# EAGLE library part 4051 (library InfoAmazonia)
8-channel ANALOG MULTIPLEXER
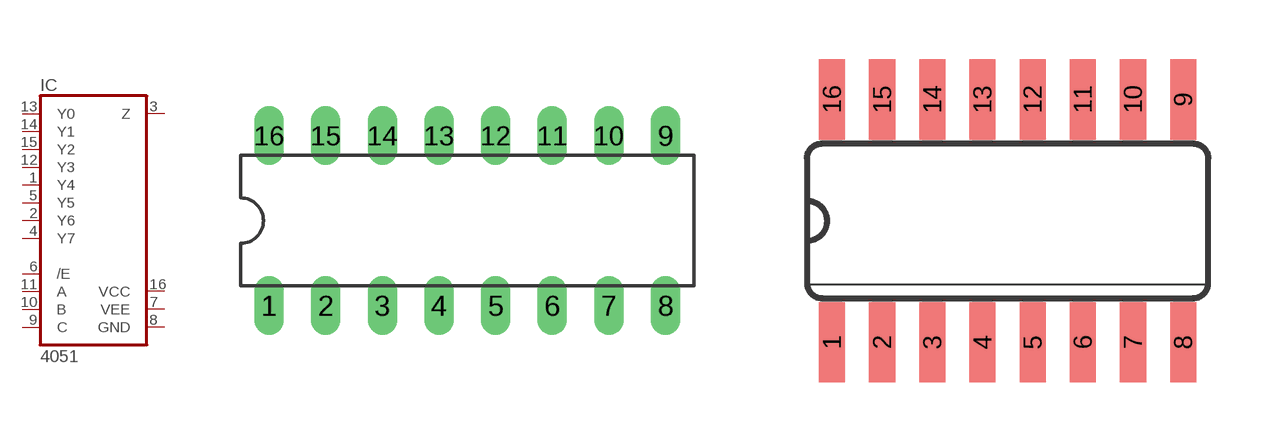
[diagram p17: symbol with the pads of DIL16; footprints DIL16, SO16]

Designator prefix IC

## 4051N  [DIL16]
1  Y4
2  Y6
3  Z
4  Y7
5  Y5
6  /E  in
7  VEE
8  GND
9  C  in
10  B  in
11  A  in
12  Y3
13  Y0
14  Y1
15  Y2
16  VCC

## 4051D  [SO16]
Pads as for DIL16

## 4051PW  [TSSOP16]
Pads as for DIL16

## Footprint DIL16 (pad centres in mm)
Dual In Line Package
drill 0.813 long: 1 -8.89,-3.81; 2 -6.35,-3.81; 3 -3.81,-3.81; 4 -1.27,-3.81; 5 1.27,-3.81; 6 3.81,-3.81; 7 6.35,-3.81; 8 8.89,-3.81; 9 8.89,3.81; 10 6.35,3.81; 11 3.81,3.81; 12 1.27,3.81; 13 -1.27,3.81; 14 -3.81,3.81; 15 -6.35,3.81; 16 -8.89,3.81

## Footprint SO16 (pad centres in mm)
Small Outline package 150 mil
smd 0.66 x 2.032: 1 -4.445,-3.073; 2 -3.175,-3.073; 3 -1.905,-3.073; 4 -0.635,-3.073; 5 0.635,-3.073; 6 1.905,-3.073; 7 3.175,-3.073; 8 4.445,-3.073; 9 4.445,3.073; 10 3.175,3.073; 11 1.905,3.073; 12 0.635,3.073; 13 -0.635,3.073; 14 -1.905,3.073; 15 -3.175,3.073; 16 -4.445,3.073

## Footprint TSSOP16 (pad centres in mm)
Thin Shrink Small Outline Plastic 16
smd 0.305 x 1.143: 1 -2.268,-2.918; 2 -1.617,-2.918; 3 -0.968,-2.918; 4 -0.318,-2.918; 5 0.333,-2.918; 6 0.983,-2.918; 7 1.633,-2.918; 8 2.283,-2.918; 9 2.283,2.918; 10 1.633,2.918; 11 0.983,2.918; 12 0.333,2.918; 13 -0.318,2.918; 14 -0.968,2.918; 15 -1.617,2.918; 16 -2.268,2.918